# EAGLE library part 621X4421921 (library Board-to-Board (rev18a))
WR-PHD 2.00mm Dual SMT Pin Header, 44 Pins=>Code :WR-PHD_SMD_2,00mm_zweireihig621x4421921(packageing:x = 0: Tube x = 3: Tape & Reel with Cap) <http://katalog.we-online.de/media/images/eican/WR-PHD_SMD_2,00mm_zweireihig62103221921.jpg> 6210xx21921 Details see: http://katalog.we-online.de/en/em/621_0xx_219_21 6213xx21921 Details see: http://katalog.we-online.de/en/em/PHD_2_00_SMT_DUAL_PIN_HEADER_REEL_6213XX21921 2014 (C) Würth Elektronik
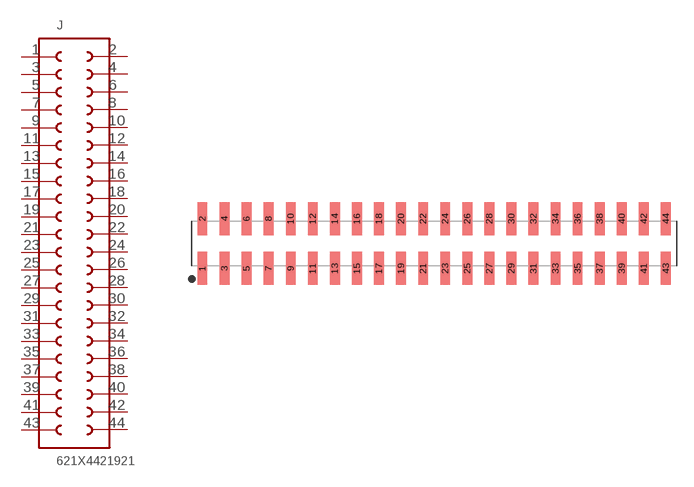
[diagram p239: symbol with the pads of 621X4421921; footprint 621X4421921]

Designator prefix J

## 621X4421921  [621X4421921]
1  1  pas
2  44  pas
3  2  pas
4  43  pas
5  3  pas
6  42  pas
7  4  pas
8  41  pas
9  5  pas
10  40  pas
11  6  pas
12  39  pas
13  7  pas
14  38  pas
15  8  pas
16  37  pas
17  9  pas
18  36  pas
19  10  pas
20  35  pas
21  11  pas
22  34  pas
23  12  pas
24  33  pas
25  13  pas
26  32  pas
27  14  pas
28  31  pas
29  15  pas
30  30  pas
31  16  pas
32  29  pas
33  17  pas
34  28  pas
35  18  pas
36  27  pas
37  19  pas
38  26  pas
39  20  pas
40  25  pas
41  21  pas
42  24  pas
43  22  pas
44  23  pas

## Footprint 621X4421921 (pad centres in mm)
WR-PHD 2.00mm Dual SMT Pin Header, 44 Pins
smd 0.89 x 3: 1 -21,-2.25; 2 -21,2.25; 3 -19,-2.25; 4 -19,2.25; 5 -17,-2.25; 6 -17,2.25; 7 -15,-2.25; 8 -15,2.25; 9 -13,-2.25; 10 -13,2.25; 11 -11,-2.25; 12 -11,2.25; 13 -9,-2.25; 14 -9,2.25; 15 -7,-2.25; 16 -7,2.25; 17 -5,-2.25; 18 -5,2.25; 19 -3,-2.25; 20 -3,2.25; 21 -1,-2.25; 22 -1,2.25; 23 1,-2.25; 24 1,2.25; 25 3,-2.25; 26 3,2.25; 27 5,-2.25; 28 5,2.25; 29 7,-2.25; 30 7,2.25; 31 9,-2.25; 32 9,2.25; 33 11,-2.25; 34 11,2.25; 35 13,-2.25; 36 13,2.25; 37 15,-2.25; 38 15,2.25; 39 17,-2.25; 40 17,2.25; 41 19,-2.25; 42 19,2.25; 43 21,-2.25; 44 21,2.25